# EAGLE library part STM32F413MGY6TR (library STM32F413MGY6TR)
ARM Microcontrollers - MCU 16/32-BITS MICROS Source: Datasheet <http://www.st.com/content/ccc/resource/technical/document/datasheet/group3/f6/1d/4a/d9/f9/96/43/2a/DM00282249/files/DM00282249.pdf/jcr:content/translations/en.DM00282249.pdf>
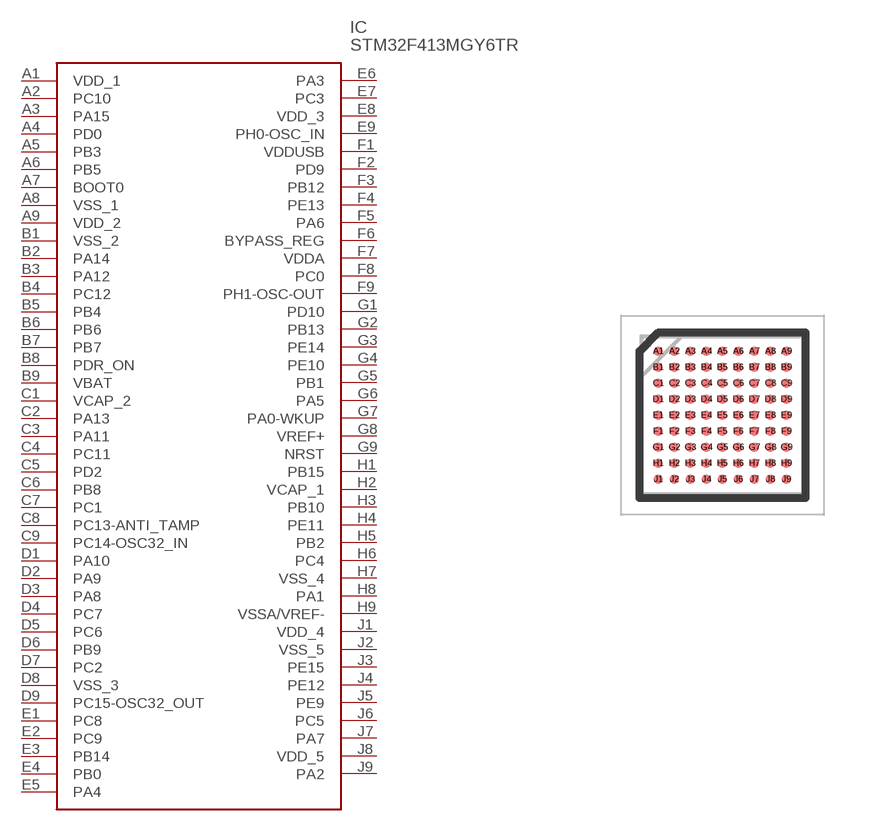
[diagram p0: symbol with the pads of BGA81C40P9X9_404X395X58; footprint BGA81C40P9X9_404X395X58]

Designator prefix IC

## STM32F413MGY6TR (Description: ARM Microcontrollers - MCU 16/32-BITS MICROS; Height: 0.585mm; Manufacturer_Name: STMicroelectronics; Manufacturer_Part_Number: STM32F413MGY6TR)  [BGA81C40P9X9_404X395X58]
A1  VDD_1
A2  PC10
A3  PA15
A4  PD0
A5  PB3
A6  PB5
A7  BOOT0
A8  VSS_1
A9  VDD_2
B1  VSS_2
B2  PA14
B3  PA12
B4  PC12
B5  PB4
B6  PB6
B7  PB7
B8  PDR_ON
B9  VBAT
C1  VCAP_2
C2  PA13
C3  PA11
C4  PC11
C5  PD2
C6  PB8
C7  PC1
C8  PC13-ANTI_TAMP
C9  PC14-OSC32_IN
D1  PA10
D2  PA9
D3  PA8
D4  PC7
D5  PC6
D6  PB9
D7  PC2
D8  VSS_3
D9  PC15-OSC32_OUT
E1  PC8
E2  PC9
E3  PB14
E4  PB0
E5  PA4
E6  PA3
E7  PC3
E8  VDD_3
E9  PH0-OSC_IN
F1  VDDUSB
F2  PD9
F3  PB12
F4  PE13
F5  PA6
F6  BYPASS_REG
F7  VDDA
F8  PC0
F9  PH1-OSC-OUT
G1  PD10
G2  PB13
G3  PE14
G4  PE10
G5  PB1
G6  PA5
G7  PA0-WKUP
G8  VREF+
G9  NRST
H1  PB15
H2  VCAP_1
H3  PB10
H4  PE11
H5  PB2
H6  PC4
H7  VSS_4
H8  PA1
H9  VSSA/VREF-
J1  VDD_4
J2  VSS_5
J3  PE15
J4  PE12
J5  PE9
J6  PC5
J7  PA7
J8  VDD_5
J9  PA2

## Footprint BGA81C40P9X9_404X395X58 (pad centres in mm)
WLCSP81 - 81-ball
smd 0.242 x 0.242: A1 -1.6,1.6; A2 -1.2,1.6; A3 -0.8,1.6; A4 -0.4,1.6; A5 0,1.6; A6 0.4,1.6; A7 0.8,1.6; A8 1.2,1.6; A9 1.6,1.6; B1 -1.6,1.2; B2 -1.2,1.2; B3 -0.8,1.2; B4 -0.4,1.2; B5 0,1.2; B6 0.4,1.2; B7 0.8,1.2; B8 1.2,1.2; B9 1.6,1.2; C1 -1.6,0.8; C2 -1.2,0.8; C3 -0.8,0.8; C4 -0.4,0.8; C5 0,0.8; C6 0.4,0.8; C7 0.8,0.8; C8 1.2,0.8; C9 1.6,0.8; D1 -1.6,0.4; D2 -1.2,0.4; D3 -0.8,0.4; D4 -0.4,0.4; D5 0,0.4; D6 0.4,0.4; D7 0.8,0.4; D8 1.2,0.4; D9 1.6,0.4; E1 -1.6,0; E2 -1.2,0; E3 -0.8,0; E4 -0.4,0; E5 0,0; E6 0.4,0; E7 0.8,0; E8 1.2,0; E9 1.6,0; F1 -1.6,-0.4; F2 -1.2,-0.4; F3 -0.8,-0.4; F4 -0.4,-0.4; F5 0,-0.4; F6 0.4,-0.4; F7 0.8,-0.4; F8 1.2,-0.4; F9 1.6,-0.4; G1 -1.6,-0.8; G2 -1.2,-0.8; G3 -0.8,-0.8; G4 -0.4,-0.8; G5 0,-0.8; G6 0.4,-0.8; G7 0.8,-0.8; G8 1.2,-0.8; G9 1.6,-0.8; H1 -1.6,-1.2; H2 -1.2,-1.2; H3 -0.8,-1.2; H4 -0.4,-1.2; H5 0,-1.2; H6 0.4,-1.2; H7 0.8,-1.2; H8 1.2,-1.2; H9 1.6,-1.2; J1 -1.6,-1.6; J2 -1.2,-1.6; J3 -0.8,-1.6; J4 -0.4,-1.6; J5 0,-1.6; J6 0.4,-1.6; J7 0.8,-1.6; J8 1.2,-1.6; J9 1.6,-1.6